# Altium schematic symbol library Potentiometers.SchLib: 3 symbols
Pins are listed as number, name and electrical type; pins without a type are passive.

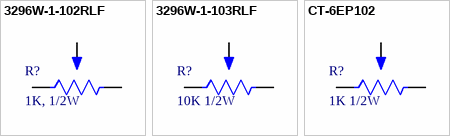
[diagram p0: symbols 3296W-1-102RLF to CT-6EP102]

## 3296W-1-102RLF
designator R?, comment 1K, 1/2W
TRIMMER 1K OHM 0.5W PC PIN TOP; Manufacturer: Bourns; Manufacturer Part Number: 3296W-1-102RLF; Tolerance: 10%; Actuator Orientation: Vertical; Actuator Type: SCREW; Number of Turns: 25; Power: 500mW; Rated Temperature: 70°C; Value: 1kR; Resistance Law: Linear; Rotational Angle: 9000°; Temperature Coefficient: -100100ppm/°C; Lead Diameter: 0.51mm; Lead Length: 6.4mm; Package Height: 10.03mm; Package Length: 9.53mm; Package Width: 4.83mm; Supplier: Digikey; Supplier Part Number: 118-3296W-1-102RLFCT-ND; RoHS: Yes; Category: Variable Resistors and Potentiometers; Stock: 1604; Pricing: 1=2.66, 10=2.326, 25=2.0768, 50=1.9522, 100=1.9106, 250=1.82752, 500=1.49526 (USD); Mounting Technology: Through Hole; Pins: 3; Package Shape: Rectangular; Case/Package: 3819; Terminal Finish: Tin; Min Operating Temperature: -55°C; Max Operating Temperature: 125°C; JESD-609 Code: e3; Resistor Type: TRIMMER; Construction: Trimmer Pot; Package Style: PCB MountMeter; Packaging: Tape and Reel; Technology: CERMET; Termination: Wire; RoHS Compliant: Yes; Reach SVHC Compliant: No; ComponentLink1URL: https://datasheet.ciiva.com:443/pdfs/VipMasterIC/IC/BOUR/BOUR-S-A0008796795/BOUR-S-A0008796795-1.pdf?src-supplier=IHS+Markit; ComponentLink1Description: https://datasheet.ciiva.com:443/pdfs/VipMasterIC/IC/BOUR/BOUR-S-A0008796795/BOUR-S-A0008796795-1.pdf?src-supplier=IHS+Markit; ComponentLink2URL: https://datasheet.ciiva.com/2162/3296-2162753.pdf?src-supplier=Digikey; ComponentLink2Description: https://datasheet.ciiva.com/2162/3296-2162753.pdf?src-supplier=Digikey; ComponentLink3URL: https://datasheet.ciiva.com/8088/3296-8088765.pdf?src-supplier=Avnet; ComponentLink3Description: https://datasheet.ciiva.com/8088/3296-8088765.pdf?src-supplier=Avnet; ComponentLink4URL: https://datasheet.ciiva.com/15211/getdatasheetpartid-707789-15211738.pdf?src-supplier=Verical; ComponentLink4Description: https://datasheet.ciiva.com/15211/getdatasheetpartid-707789-15211738.pdf?src-supplier=Verical
footprint TRIM-3296
pins: 1 CCW, 2 WIPER, 3 CW

## 3296W-1-103RLF
designator R?, comment 10K 1/2W
TRIMMER 10K OHM 0.5W PC PIN TOP; Manufacturer: Bourns; Manufacturer Part Number: 3296W-1-103RLF; Tolerance: 10%; Actuator Orientation: Vertical; Actuator Type: SCREW; Number of Turns: 25; Power: 500mW; Rated Temperature: 70°C; Value: 10kR; Resistance Law: Linear; Rotational Angle: 9000°; Temperature Coefficient: -100100ppm/°C; Lead Diameter: 0.51mm; Lead Length: 6.4mm; Package Height: 10.03mm; Package Length: 9.53mm; Package Width: 4.83mm; Supplier: Digikey; Supplier Part Number: 118-3296W-1-103RLFCT-ND; RoHS: Yes; Category: Variable Resistors and Potentiometers; Stock: 10907; Pricing: 1=2.66, 10=2.326, 25=2.0768, 50=1.9522, 100=1.9106, 250=1.82752, 500=1.49526 (USD); Mounting Technology: Through Hole; Pins: 3; Package Shape: Rectangular; Case/Package: 3819; Terminal Finish: Tin; Min Operating Temperature: -55°C; Max Operating Temperature: 125°C; JESD-609 Code: e3; Resistor Type: TRIMMER; Construction: Trimmer Pot; Package Style: PCB MountMeter; Packaging: Tape and Reel; Technology: CERMET; Termination: Wire; RoHS Compliant: Yes; Reach SVHC Compliant: No; ComponentLink1URL: https://datasheet.ciiva.com:443/pdfs/VipMasterIC/IC/BOUR/BOUR-S-A0008796795/BOUR-S-A0008796795-1.pdf?src-supplier=IHS+Markit; ComponentLink1Description: https://datasheet.ciiva.com:443/pdfs/VipMasterIC/IC/BOUR/BOUR-S-A0008796795/BOUR-S-A0008796795-1.pdf?src-supplier=IHS+Markit; ComponentLink2URL: https://datasheet.ciiva.com/6226/3296-6226765.pdf?src-supplier=Digikey; ComponentLink2Description: https://datasheet.ciiva.com/6226/3296-6226765.pdf?src-supplier=Digikey; ComponentLink3URL: https://datasheet.ciiva.com/6226/3296-6226767.pdf?src-supplier=Digikey; ComponentLink3Description: https://datasheet.ciiva.com/6226/3296-6226767.pdf?src-supplier=Digikey; ComponentLink4URL: https://datasheet.ciiva.com/15156/getdatasheetpartid-227249-15156874.pdf?src-supplier=Verical; ComponentLink4Description: https://datasheet.ciiva.com/15156/getdatasheetpartid-227249-15156874.pdf?src-supplier=Verical; ComponentLink5URL: https://datasheet.ciiva.com/8088/3296-8088775.pdf?src-supplier=Avnet; ComponentLink5Description: https://datasheet.ciiva.com/8088/3296-8088775.pdf?src-supplier=Avnet
footprint TRIM-3296
pins: 1 CCW, 2 WIPER, 3 CW

## CT-6EP102
designator R?, comment 1K 1/2W
TRIMMER 1K OHM 0.5W PC PIN TOP; Manufacturer: Nidec Copal; Manufacturer Part Number: CT-6EP102; Supplier: Digikey; Supplier Part Number: 563-CT-6EP102-ND; RoHS: Yes; Category: Variable Resistors and Potentiometers; Stock: 51856; Pricing: 1=0.59, 10=0.532, 25=0.4804, 50=0.4634, 200=0.43755, 400=0.4204, 600=0.39467, 1000=0.32603, 5000=0.3021 (USD); ComponentLink1URL: https://datasheet.ciiva.com/2157/ct-6-2157717.pdf?src-supplier=Digikey; ComponentLink1Description: https://datasheet.ciiva.com/2157/ct-6-2157717.pdf?src-supplier=Digikey
footprint TRIM-CT6EP
pins: 1 CCW, 2 WIPER, 3 CW